# EAGLE library part 52610-1671 (library Molex_By_element14_Batch_1)
SOCKET FFC/FPC
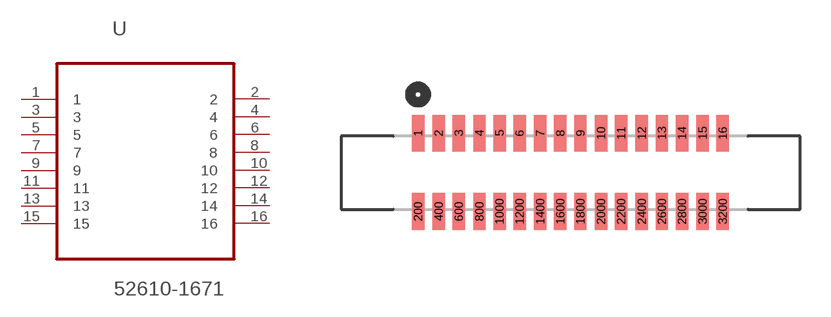
[diagram p18: symbol with the pads of MOLEX_52610-1671; footprint MOLEX_52610-1671]

Designator prefix U

## 52610-1671 (MPN: 52610-1671; OC_FARNELL: -; OC_NEWARK: 58J9775; PACKAGE: SOCKET FFC/FPC, 16 way; SUPPLIER: Molex)  [MOLEX_52610-1671]
1  1  pas
2  2  pas
3  3  pas
4  4  pas
5  5  pas
6  6  pas
7  7  pas
8  8  pas
9  9  pas
10  10  pas
11  11  pas
12  12  pas
13  13  pas
14  14  pas
15  15  pas
16  16  pas

## Footprint MOLEX_52610-1671 (pad centres in mm)
smd 0.61 x 1.803: 1 -15.011,3.861; 2 -13.995,3.861; 3 -13.005,3.861; 4 -11.989,3.861; 5 -10.998,3.861; 6 -10.008,3.861; 7 -8.992,3.861; 8 -8.001,3.861; 9 -7.01,3.861; 10 -5.994,3.861; 11 -5.004,3.861; 12 -3.988,3.861; 13 -2.997,3.861; 14 -2.007,3.861; 15 -0.991,3.861; 16 0,3.861; 200 -15.011,0; 400 -13.995,0; 600 -13.005,0; 800 -11.989,0; 1000 -10.998,0; 1200 -10.008,0; 1400 -8.992,0; 1600 -8.001,0; 1800 -7.01,0; 2000 -5.994,0; 2200 -5.004,0; 2400 -3.988,0; 2600 -2.997,0; 2800 -2.007,0; 3000 -0.991,0; 3200 0,0